# Altium footprint library Chip Capacitor - 2 Contacts.PcbLib: 24 footprints (part 2 of 2)
Each footprint in its own frame and in the unit in brackets; x right, y up, seen from the top. Pads: shape width x height; smd on the part's side, far side on the other; paste and mask are expansions set on the pad; w line width, h text height; cw(c..) or ccw(c..) is an arc to the next point about the centre after c.
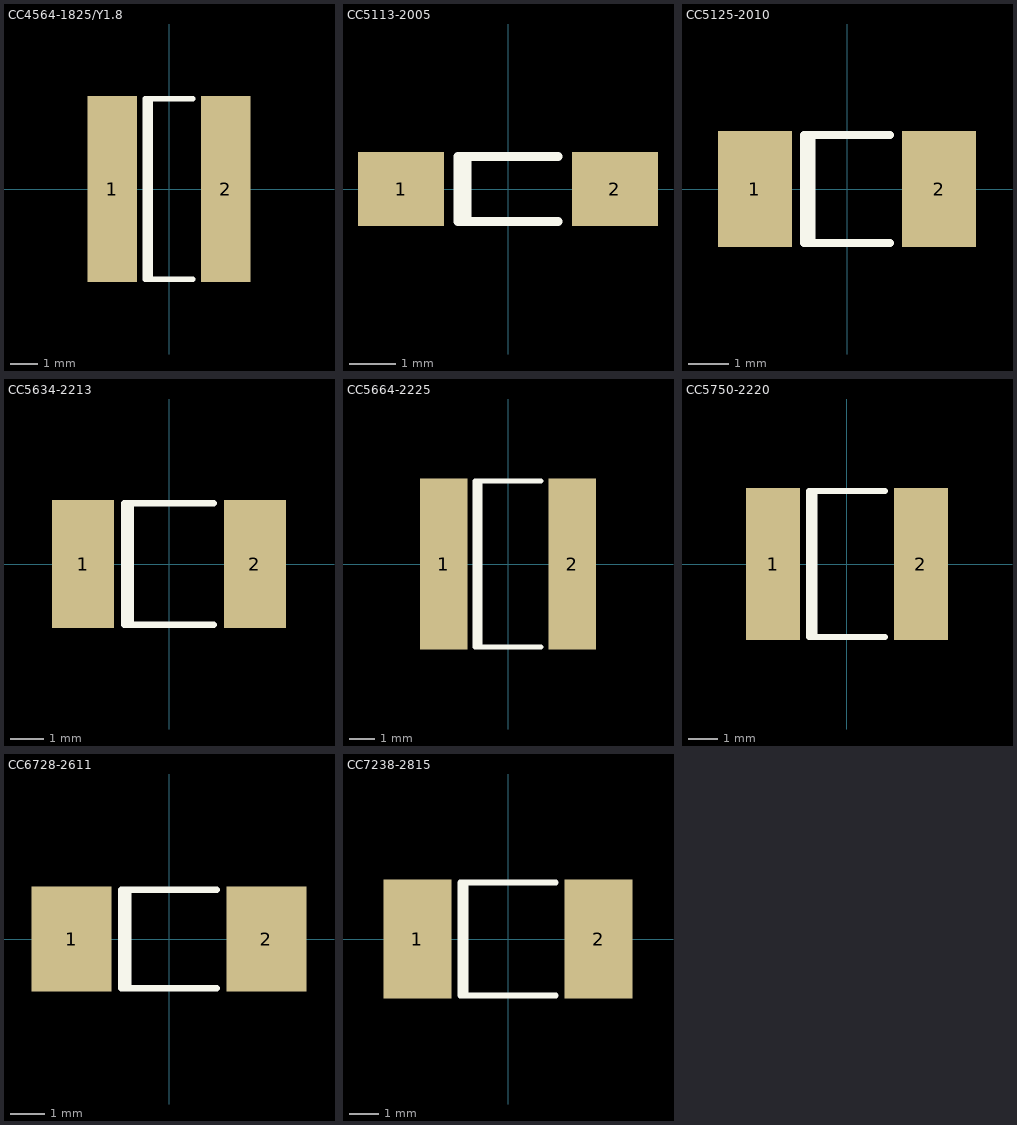
[diagram p1: the footprints below, top view; thin cyan lines are the x and y axes]

## CC4564-1825/Y1.8 [mm] "Chip Capacitor; Body 4.5 x 6.4 mm (LxW typ)"
height 2.03
pads (2):
  rect 1.8x6.8 smd: 1(-2.075,0) 2(2.075,0)
Top Overlay:
  lines w0.2: -0.685,-3.3 -0.685,3.3 ; 0.875,-3.3 -0.875,-3.3 -0.875,3.3 0.875,3.3

## CC5113-2005 [mm] "Chip Capacitor; Body 5.08 x 1.27 mm (LxW typ)"
height 1.66
pads (2):
  rect 1.85x1.6 smd: 1(-2.3,0) 2(2.3,0)
Top Overlay:
  lines w0.2: -0.885,-0.7 -0.885,0.7 ; 1.075,-0.7 -1.075,-0.7 -1.075,0.7 1.075,0.7

## CC5125-2010 [mm] "Chip Capacitor; Body 5.08 x 2.54 mm (LxW typ)"
height 1.66
pads (2):
  rect 1.85x2.9 smd: 1(-2.3,0) 2(2.3,0)
Top Overlay:
  lines w0.2: -0.885,-1.35 -0.885,1.35 ; 1.075,-1.35 -1.075,-1.35 -1.075,1.35 1.075,1.35

## CC5634-2213 [mm] "Chip Capacitor; Body 5.59 x 3.43 mm (LxW typ)"
height 2.16
pads (2):
  rect 1.85x3.8 smd: 1(-2.55,0) 2(2.55,0)
Top Overlay:
  lines w0.2: -1.135,-1.8 -1.135,1.8 ; 1.325,-1.8 -1.325,-1.8 -1.325,1.8 1.325,1.8

## CC5664-2225 [mm] "Chip Capacitor; Body 5.6 x 6.4 mm (LxW typ)"
height 2
pads (2):
  rect 1.9x6.8 smd: 1(-2.55,0) 2(2.55,0)
Top Overlay:
  lines w0.2: -1.11,-3.3 -1.11,3.3 ; 1.3,-3.3 -1.3,-3.3 -1.3,3.3 1.3,3.3

## CC5750-2220 [mm] "Chip Capacitor; Body 5.7 x 5.0 mm (LxW typ)"
height 1.8
pads (2):
  rect 1.85x5.2 smd: 1(-2.525,0) 2(2.525,0)
Top Overlay:
  lines w0.2: -1.11,-2.5 -1.11,2.5 ; 1.3,-2.5 -1.3,-2.5 -1.3,2.5 1.3,2.5

## CC6728-2611 [mm] "Chip Capacitor; Body 6.73 x 2.79 mm (LxW typ)"
height 3.18
pads (2):
  rect 2.35x3.1 smd: 1(-2.875,0) 2(2.875,0)
Top Overlay:
  lines w0.2: -1.21,-1.45 -1.21,1.45 ; 1.4,-1.45 -1.4,-1.45 -1.4,1.45 1.4,1.45

## CC7238-2815 [mm] "Chip Capacitor; Body 7.24 x 3.81 mm (LxW typ)"
height 3.18
pads (2):
  rect 2.35x4.1 smd: 1(-3.125,0) 2(3.125,0)
Top Overlay:
  lines w0.2: -1.46,-1.95 -1.46,1.95 ; 1.65,-1.95 -1.65,-1.95 -1.65,1.95 1.65,1.95